# Altium integrated library CONN.IntLib: 87 symbols (part 2 of 2)

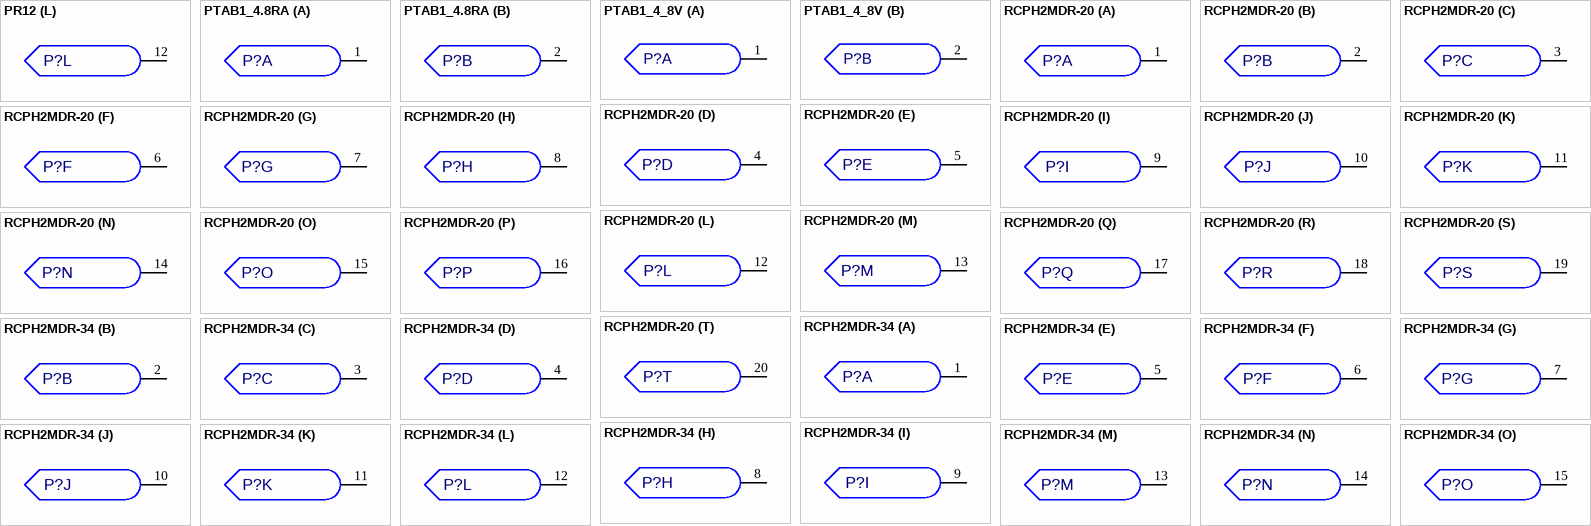
[diagram p23: symbols PR12 to RCPH2MDR-34]

## PR12
designator P?, comment 17731-0117  (value not drawn)
Connector, 12 Pin Male Rtang; Value: {Value}; ECAD_Revision: 1; Librarian: US; PartNumber: 17731-0117; Item: *
footprint PR12
part A pins: 1 PIN
part B pins: 2 PIN
part C pins: 3 PIN
part D pins: 4 PIN
part E pins: 5 PIN
part F pins: 6 PIN
part G pins: 7 PIN
part H pins: 8 PIN
part I pins: 9 PIN
part J pins: 10 PIN
part K pins: 11 PIN
part L pins: 12 PIN

## PTAB1_4.8RA
designator P?, comment 70615-277  (value not drawn)
Connector, 1 Pin Tab Horizontal Mount, 5.08mm pitch; Value: {Value}; ECAD_Revision: 2; Librarian: UK; PartNumber: 70615-277; Item: *
footprint PTAB1_4.8RA (Harwin blade horizontal tab terminal, 2 pin mount)
part A pins: 1 PIN
part B pins: 2 PIN

## PTAB1_4_8V
designator P?, comment 18136-524  (value not drawn)
Connector, 1 Pin Tab Vertical Mount, 5.08mm pitch; Value: {Value}; ECAD_Revision: 1; Librarian: UK; PartNumber: 18136-524; Item: *
footprint PTAB1_4_8V (Rev. 2)
part A pins: 1 PIN
part B pins: 2 PIN

## RCPH2MDR-20
designator P?, comment TMP_US_EHT  (value not drawn)
Connector, 20 Pin Male; Value: {Value}; ECAD_Revision: 1; Librarian: US; PartNumber: TMP_US_EHT; Item: *; HelpURL: K:\ACCELEDA\PDF Spec Files\Connector\EHT.pdf
footprint RCPH2MDR-20 (Smatec Series EHT)
part A pins: 1 PIN
part B pins: 2 PIN
part C pins: 3 PIN
part D pins: 4 PIN
part E pins: 5 PIN
part F pins: 6 PIN
part G pins: 7 PIN
part H pins: 8 PIN
part I pins: 9 PIN
part J pins: 10 PIN
part K pins: 11 PIN
part L pins: 12 PIN
part M pins: 13 PIN
part N pins: 14 PIN
part O pins: 15 PIN
part P pins: 16 PIN
part Q pins: 17 PIN
part R pins: 18 PIN
part S pins: 19 PIN
part T pins: 20 PIN

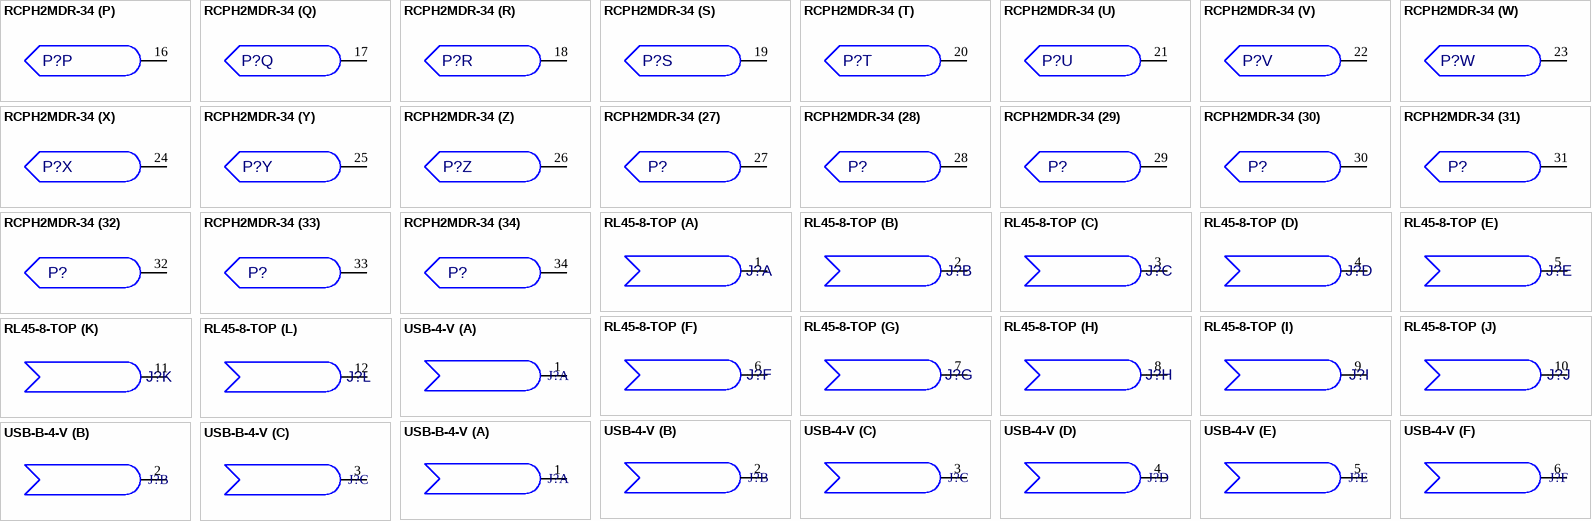
[diagram p24: symbols RCPH2MDR-34 to USB-B-4-V]

## RCPH2MDR-34
designator P?, comment TMP_US_EHT-117  (value not drawn)
Connector, 34 Pin Male; Value: {Value}; ECAD_Revision: 1; Librarian: US; PartNumber: TMP_US_EHT-117; Item: *; HelpURL: K:\ACCELEDA\PDF Spec Files\Connector\EHT.pdf
footprint RCPH2MDR-34 (Smatec EHT series)
part A pins: 1 PIN
part B pins: 2 PIN
part C pins: 3 PIN
part D pins: 4 PIN
part E pins: 5 PIN
part F pins: 6 PIN
part G pins: 7 PIN
part H pins: 8 PIN
part I pins: 9 PIN
part J pins: 10 PIN
part K pins: 11 PIN
part L pins: 12 PIN
part M pins: 13 PIN
part N pins: 14 PIN
part O pins: 15 PIN
part P pins: 16 PIN
part Q pins: 17 PIN
part R pins: 18 PIN
part S pins: 19 PIN
part T pins: 20 PIN
part U pins: 21 PIN
part V pins: 22 PIN
part W pins: 23 PIN
part X pins: 24 PIN
part Y pins: 25 PIN
part Z pins: 26 PIN
part 27 pins: 27 PIN
part 28 pins: 28 PIN
part 29 pins: 29 PIN
part 30 pins: 30 PIN
part 31 pins: 31 PIN
part 32 pins: 32 PIN
part 33 pins: 33 PIN
part 34 pins: 34 PIN

## RL45-8-TOP
designator J?, comment AWT25-500060  (value not drawn)
Connector, RJ45 Top Entry 8 Pins; ECAD_Revision: 2; Librarian: US; HelpURL: K:\ACCELEDA\PDF Spec Files\Connector\1470336.pdf; PartNumber: AWT25-500060
footprint RJ45-8-TOP (Rev. 3  3.2 holes were plated thru Cat 3 Top Entry 8 Pins)
part A pins: 1 PIN, 13 GND hidden to GND, 14 GND hidden to GND
part B pins: 2 PIN
part C pins: 3 PIN
part D pins: 4 PIN
part E pins: 5 PIN
part F pins: 6 PIN
part G pins: 7 PIN
part H pins: 8 PIN
part I pins: 9 PIN
part J pins: 10 PIN
part K pins: 11 PIN
part L pins: 12 PIN

## USB-4-V
designator J?, comment AWT25-500058  (value not drawn)
Connector USB 4 Pin Vertical; ECAD_Revision: 3; Librarian: US; HelpURL: K:\ACCELEDA\PDF Spec Files\Connector\AJT20G.pdf; PartNumber: AWT25-500058
footprint USB-A-4-V (USB  A Vertical)
part A pins: 1 PIN
part B pins: 2 PIN
part C pins: 3 PIN
part D pins: 4 PIN
part E pins: 5 PIN
part F pins: 6 PIN

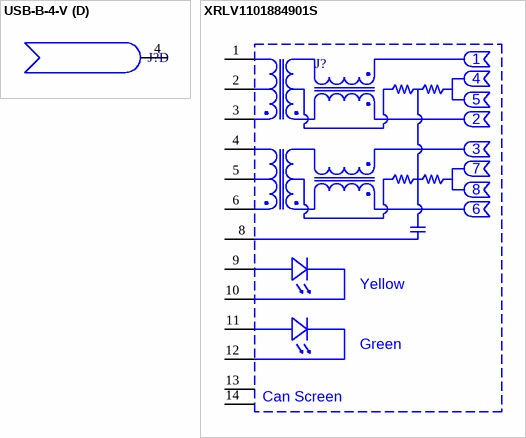
[diagram p25: symbols USB-B-4-V to XRLV1101884901S]

## USB-B-4-V
designator J?, comment AWT25-500059  (value not drawn)
Connector USB Stlye B 4 Pin; ECAD_Revision: 2; Librarian: US; HelpURL: K:\ACCELEDA\PDF Spec Files\Connector\USB-B-4-V.pdf; PartNumber: AWT25-500059
footprint USB-B-4-V (USB Style B 4 pin Vertical)
part A pins: 1 PIN, 5 GND hidden to GND, 6 GND hidden to GND, 7 GND hidden to GND, 8 GND hidden to GND
part B pins: 2 PIN
part C pins: 3 PIN
part D pins: 4 PIN

## XRLV1101884901S
designator J?, comment AWT25-000138  (value not drawn)
Connector, XRLV1101884901, Modular Jack with LAN Magnetics; ECAD_Revision: 1; Librarian: UK; PartNumber: AWT25-000138; Item: *; HelpURL: *; Value: *; Tolerance: *
footprint XRLV1101884901
pins: 1, 2, 3, 4, 5, 6, 8, 9, 10, 11, 12, 13, 14
text: 7; Yellow; Green; Can Screen